# EAGLE library part M5207L01 (library pedals-integrated circuits)
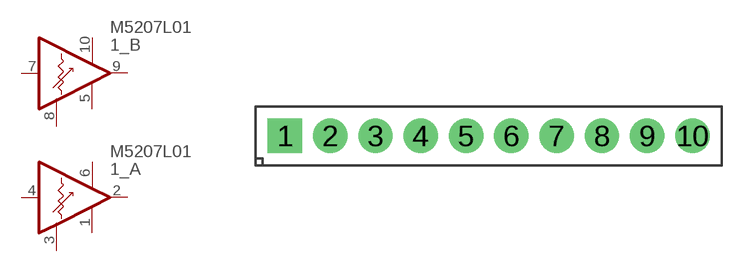
[diagram p33: symbol with the pads of SIL10; footprint SIL10]

Designator prefix 1; gates _A=VCA _B=VCA

## M5207L01  [SIL10]
1  _A:-PWR  pwr
2  _A:OUT  out
3  _A:VC
4  _A:IN  in
5  _B:-PWR  pwr
6  _A:+PWR  pwr
7  _B:IN  in
8  _B:VC
9  _B:OUT  out
10  _B:+PWR  pwr

## Footprint SIL10 (pad centres in mm)
drill 1 pad 1.93 square: 1 0,0
drill 1 pad 1.93: 2 2.54,0; 3 5.08,0; 4 7.62,0; 5 10.16,0; 6 12.7,0; 7 15.24,0; 8 17.78,0; 9 20.32,0; 10 22.86,0